# EAGLE library part 6260XX210201_626012210201 (library WR-NPC2)
WR-NPC2 Male Header - Dual Row - THT 2.5mm pitch - Glow Wire Characteristics Properties Working Voltage: 250 V Operating temperature: -40°C up to +105°C Durability: 25 Mating cycles UL Approval: E323964 UL 94-V0 Glow Wire Approval: IEC 60335-1 Fully isolated & Protected Contacts Features Coding against Mismating Applications Industrial Home Appliances Telecommunication <https://www.we-online.com/components/media/o786372v209%20Family-WR-NPC2-6260xx220101.jpg> Details see: www.we-online.com/components/products/WR_NPC2_MALE_HEADER_DUAL_ROW_THT <www.we-online.com/catalog/WR_NPC2_MALE_HEADER_DUAL_ROW_THT/?utm_source=eagle_model&utm_medium=description_link&utm_campaign=eisos_eagle> Created by Ella Wu 2024-11-06 2024 (C) Wurth Elektronik
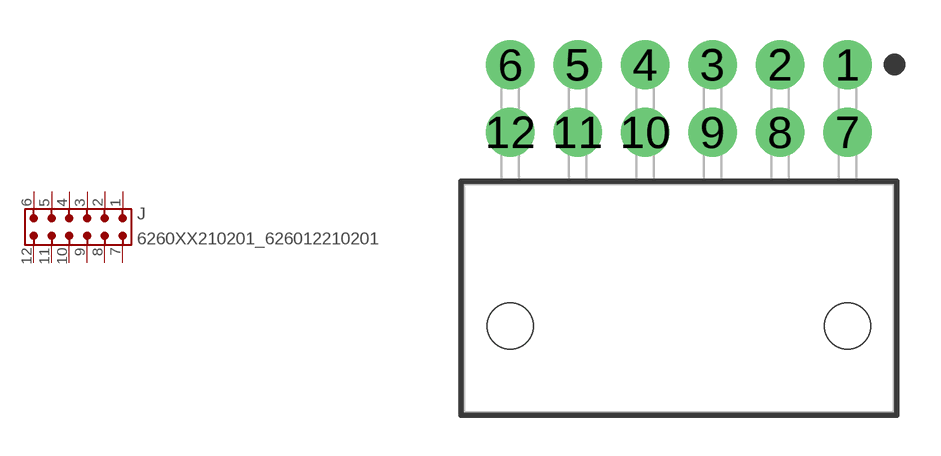
[diagram p0: symbol with the pads of 626012210201; footprint 626012210201]

Designator prefix J

## 6260XX210201_626012210201 (CONTACT-RESISTANCE: 10mOhm; DATASHEET-URL: https://www.we-online.com/redexpert/spec/626012210201?ae; GENDER: Male; IR: 6.5A; MOUNT: THT; PACKAGING: Tray; PART-NUMBER: 626012210201; PITCH: 2.5mm; POLARITY: 12; ROWS: Dual Row; TYPE: Right Angled; VALUE: 626012210201; WORKING-VOLTAGE: 250V (AC))  [626012210201]
1  1  pas
2  2  pas
3  3  pas
4  4  pas
5  5  pas
6  6  pas
7  7  pas
8  8  pas
9  9  pas
10  10  pas
11  11  pas
12  12  pas

## Footprint 626012210201 (pad centres in mm)
WR-NPC2 THT Dual Row Male Header Angled with Snap-in Plastic Pegs THT, 12pins
drill 1.2: 1 6.25,9.68; 2 3.75,9.68; 3 1.25,9.68; 4 -1.25,9.68; 5 -3.75,9.68; 6 -6.25,9.68; 7 6.25,7.18; 8 3.75,7.18; 9 1.25,7.18; 10 -1.25,7.18; 11 -3.75,7.18; 12 -6.25,7.18
hole 1.7 at -6.25,0
hole 1.7 at 6.25,0